# Altium schematic symbol library XT Schematic Lib.SchLib: 4 symbols
Pins are listed as number, name and electrical type; pins without a type are passive.

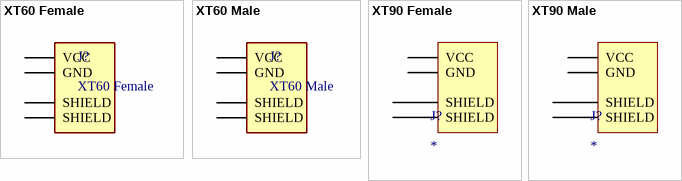
[diagram p0: symbols XT60 Female to XT90 Male]

## XT60 Female
designator J?
Socket DC Supply Connector Female; MPN: XT60PW-F AMASS; MP: XT60PW-F; MF: AMASS; Availability: Unavailable; SnapEDA_Link: https://www.snapeda.com/parts/XT60PW-F/AMASS/view-part/2890674/?ref=snap; Value: XT60 Female; Price: None; Package: Package; Manufacturer: AMASS
footprint XT60 Female Board Mount
pins: 1 GND, 2 VCC, S1 SHIELD, S2 SHIELD

## XT60 Male
designator J?
Socket DC Supply Connector Male; MPN: XT60PW-F AMASS; MP: XT60PW-F; MF: AMASS; Availability: Unavailable; SnapEDA_Link: https://www.snapeda.com/parts/XT60PW-F/AMASS/view-part/2890674/?ref=snap; Value: XT60 Male; Price: None; Package: Package; Manufacturer: AMASS
footprint XT60 Male Board Mount
pins: 1 VCC, 2 GND, S1 SHIELD, S2 SHIELD

## XT90 Female
designator J?
Socket; DC supply; XT90; female; PIN: 2; on PCBs; THT; Colour: yellow; MP: XT90PW-M; Value: XT90 Male; MF: AMASS; Package: Package; Availability: Not in stock; Price: None; Check_prices: https://www.snapeda.com/parts/XT90PW-M/AMASS/view-part/?ref=eda; SnapEDA_Link: https://www.snapeda.com/parts/XT90PW-M/AMASS/view-part/?ref=snap
footprint XT90 Female Board Mount
pins: N GND, P VCC, S1 SHIELD, S2 SHIELD

## XT90 Male
designator J?
Socket; DC supply; XT90; male; PIN: 2; on PCBs; THT; Colour: yellow; MP: XT90PW-M; Value: XT90 Male; MF: AMASS; Package: Package; Availability: Not in stock; Price: None; Check_prices: https://www.snapeda.com/parts/XT90PW-M/AMASS/view-part/?ref=eda; SnapEDA_Link: https://www.snapeda.com/parts/XT90PW-M/AMASS/view-part/?ref=snap
footprint XT90 MALE BOARD MOUNT
pins: N GND, P VCC, S1 SHIELD, S2 SHIELD